# Altium schematic symbol library IND,15nH,460mA,Wirewound,0402.Schlib: 1 symbol
Pins are listed as number, name and electrical type; pins without a type are passive.

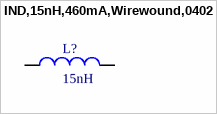
[diagram p0: symbol IND,15nH,460mA,Wirewound,0402]

## IND,15nH,460mA,Wirewound,0402
designator L?, comment 15nH
15nH Unshielded Wirewound Inductor 460mA 160mOhm Max 0402 (1005 Metric)
pins: 1, 2